# EAGLE library part LS027B_LCD_SHARP (library myLib)
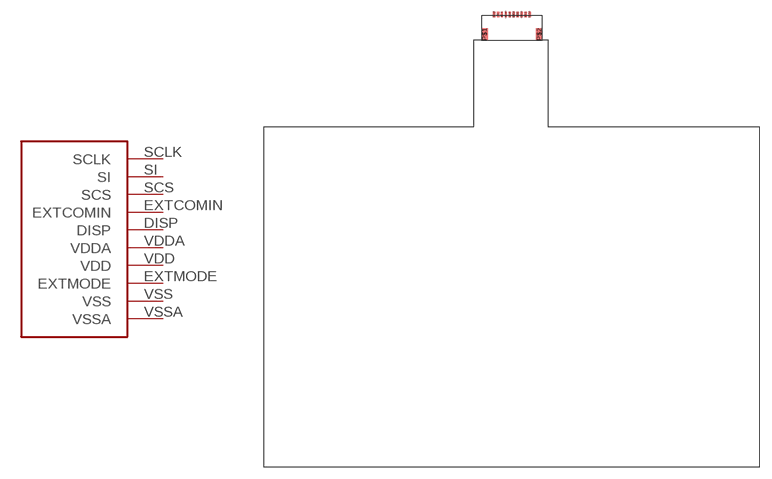
[diagram p11: symbol with the pads of FH12-10S-0.5SH; footprint FH12-10S-0.5SH]

Designator prefix -

## LS027B_LCD_SHARPFH12-10S-0.5SH  [FH12-10S-0.5SH]
DISP  DISP
EXTCOMIN  EXTCOMIN
EXTMODE  EXTMODE
SCLK  SCLK
SCS  SCS
SI  SI
VDD  VDD
VDDA  VDDA
VSS  VSS
VSSA  VSSA

## Footprint FH12-10S-0.5SH (pad centres in mm)
smd 0.3 x 0.655: DISP -0.25,5.25; EXTCOMIN -0.75,5.25; EXTMODE 1.25,5.25; SCLK -2.25,5.25; SCS -1.25,5.25; SI -1.75,5.25; VDD 0.75,5.25; VDDA 0.25,5.25; VSS 1.75,5.25; VSSA 2.25,5.25
smd 0.85 x 1.5: P$1 -3.45,2.75; P$2 3.45,2.75